# Altium schematic symbol library MS5535C.Schlib: 1 symbol
Pins are listed as number, name and electrical type; pins without a type are passive.

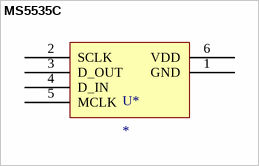
[diagram p0: symbol MS5535C]

## MS5535C
designator U*
MS5535C pressure and temperature sensor
pins: 1 GND, 2 SCLK, 3 D_OUT, 4 D_IN, 5 MCLK, 6 VDD